# Altium footprint library Wifi_module2.PcbLib: 1 footprints
Each footprint in its own frame and in the unit in brackets; x right, y up, seen from the top. Pads: shape width x height; smd on the part's side, far side on the other; paste and mask are expansions set on the pad; w line width, h text height; cw(c..) or ccw(c..) is an arc to the next point about the centre after c.
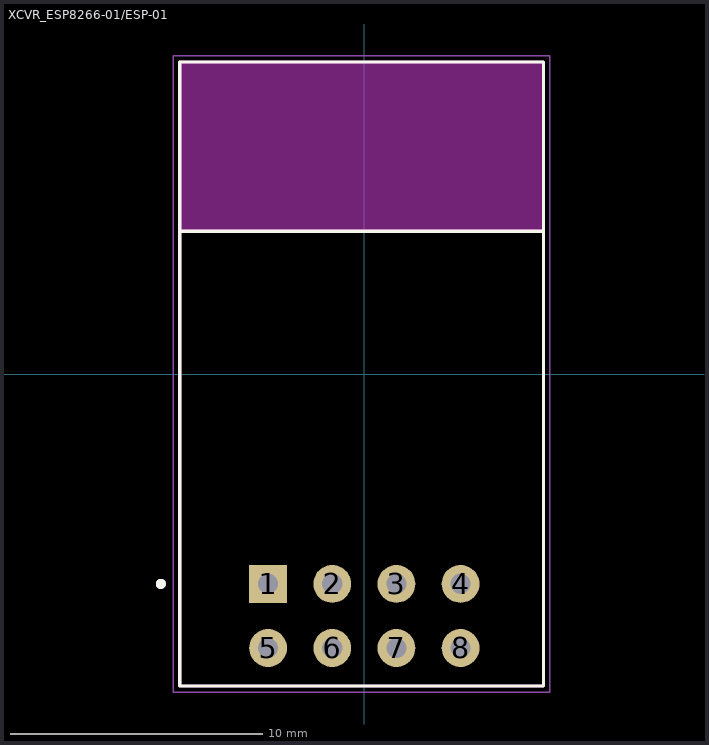
[diagram p0: the footprint, top view; thin cyan lines are the x and y axes]

## XCVR_ESP8266-01/ESP-01 [mm]
pads (8):
  rect 1.5x1.5 hole 0.8: 1(-3.81,-8.31)
  round 1.5 hole 0.8: 2(-1.27,-8.31) 3(1.27,-8.31) 4(3.81,-8.31) 5(-3.81,-10.85) 6(-1.27,-10.85) 7(1.27,-10.85) 8(3.81,-10.85)
Top Overlay:
  circle w0.2: c-8.06,-8.31 r0.1
  lines w0.127: -7.31,5.65 -7.31,-12.35 7.09,-12.35 7.09,5.65 ; -7.31,5.65 -7.31,12.35 7.09,12.35 7.09,5.65 ; -7.31,5.65 7.09,5.65
Keep-Out Layer:
  region: 7.09,5.65 -7.31,5.65 -7.31,12.35 7.09,12.35
  region: 7.09,5.65 -7.31,5.65 -7.31,12.35 7.09,12.35
Mechanical 13:
  circle w0.2: c-8.06,-8.31 r0.1
  lines w0.127: -7.31,5.65 -7.31,-12.35 7.09,-12.35 7.09,5.65 ; -7.31,5.65 -7.31,12.35 7.09,12.35 7.09,5.65 ; -7.31,5.65 7.09,5.65
Mechanical 15:
  lines w0.05: -7.56,-12.6 -7.56,12.6 7.34,12.6 7.34,-12.6 -7.56,-12.6
3D body "step_temp.STEP": height 6.5, standoff -6, extent -7.2,-12.35 7.2,12.35